# EAGLE library part 555166-1 (library con-hirose-dxlm)
AMP connector
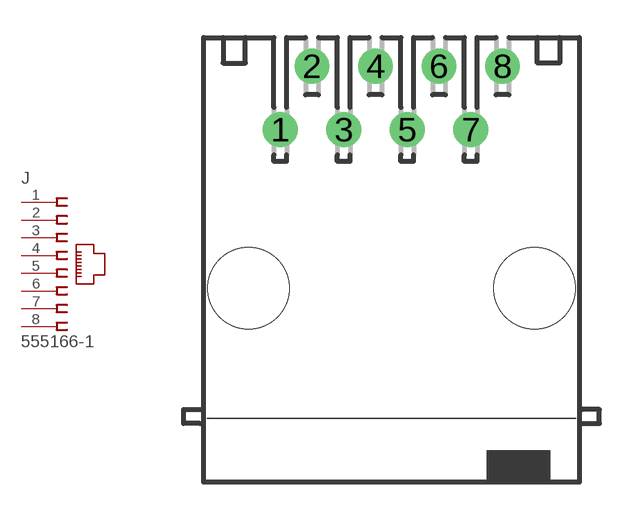
[diagram p30: symbol with the pads of 555166-1; footprint 555166-1]

Designator prefix J

## 555166-1  [555166-1]
1  1  pas
2  2  pas
3  3  pas
4  4  pas
5  5  pas
6  6  pas
7  7  pas
8  8  pas

## Footprint 555166-1 (pad centres in mm)
Modular Jack Keyed with Panel Stops
drill 0.889: 1 -4.445,5.207; 2 -3.175,7.747; 3 -1.905,5.207; 4 -0.635,7.747; 5 0.635,5.207; 6 1.905,7.747; 7 3.175,5.207; 8 4.445,7.747
hole 3.251 at -5.715,-1.143
hole 3.251 at 5.715,-1.143